# EAGLE library part LINEAR_LM324 (library Piezoverstärker_v3.0)
OP AMP
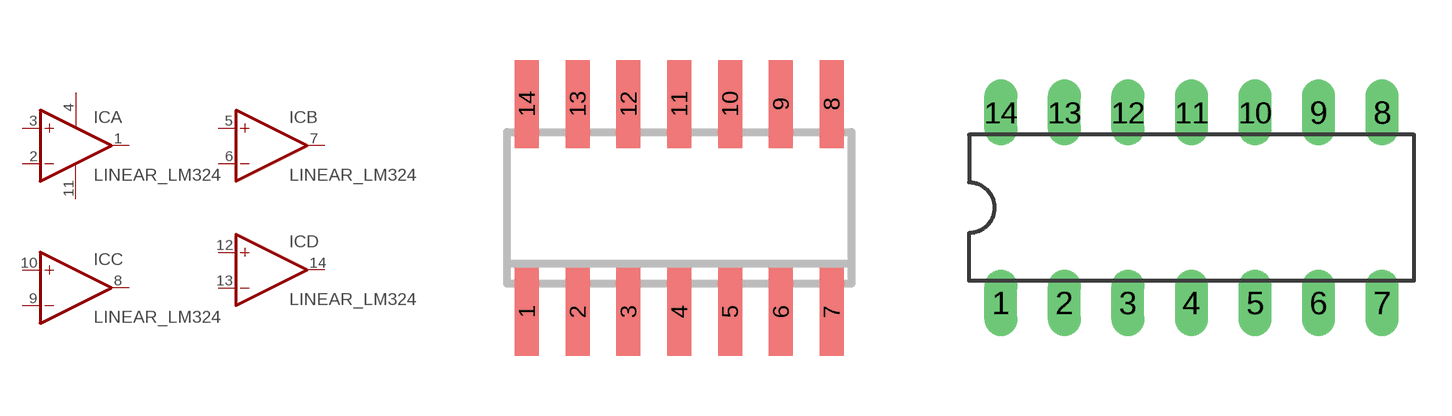
[diagram p7: symbol with the pads of LINEAR_SO14; footprints LINEAR_SO14, LINEAR_DIL14]

Designator prefix IC; gates A=LINEAR_OPAMP B=LINEAR_OPAMP C=LINEAR_OPAMP D=LINEAR_OPAMP P=LINEAR_PWR+-

## LINEAR_LM324D  [LINEAR_SO14]
1  A:OUT  out
2  A:-IN  in
3  A:+IN  in
4  P:V+  pwr
5  B:+IN  in
6  B:-IN  in
7  B:OUT  out
8  C:OUT  out
9  C:-IN  in
10  C:+IN  in
11  P:V-  pwr
12  D:+IN  in
13  D:-IN  in
14  D:OUT  out

## LINEAR_LM324N  [LINEAR_DIL14]
Pads as for LINEAR_SO14

## Footprint LINEAR_SO14 (pad centres in mm)
Small Outline Package 14
smd 0.6 x 2.2: 1 -3.81,-2.6; 2 -2.54,-2.6; 3 -1.27,-2.6; 4 0,-2.6; 5 1.27,-2.6; 6 2.54,-2.6; 7 3.81,-2.6; 8 3.81,2.6; 9 2.54,2.6; 10 1.27,2.6; 11 0,2.6; 12 -1.27,2.6; 13 -2.54,2.6; 14 -3.81,2.6

## Footprint LINEAR_DIL14 (pad centres in mm)
Dual In Line Package
drill 0.813 long: 1 -7.62,-3.81; 2 -5.08,-3.81; 3 -2.54,-3.81; 4 0,-3.81; 5 2.54,-3.81; 6 5.08,-3.81; 7 7.62,-3.81; 8 7.62,3.81; 9 5.08,3.81; 10 2.54,3.81; 11 0,3.81; 12 -2.54,3.81; 13 -5.08,3.81; 14 -7.62,3.81